# EAGLE library part SN75176BDR (library libredaq-comps)
SNx5176B Differential Bus Transceivers. The SN65176B and SN75176B differential bus transceivers are designed for bidirectional data communication on multipoint bus transmission lines. They are designed for balanced transmission lines and meet ANSI Standards TIA/EIA-422-B (RS422) and TIA/EIA-485-A (RS485).
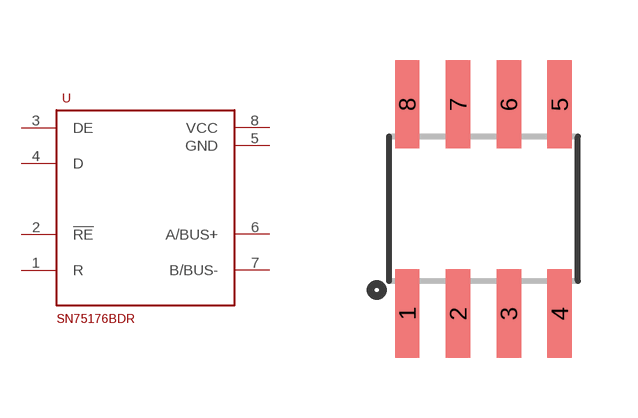
[diagram p2: symbol with the pads of SOIC8; footprint SOIC8]

Designator prefix U

## SN75176BDR  [SOIC8]
1  R
2  !RE
3  DE  in
4  D
5  GND
6  A/BUS+
7  B/BUS-
8  VCC

## Footprint SOIC8 (pad centres in mm)
smd 0.61 x 2.21: 1 -0.635,-2.616; 2 0.635,-2.616; 3 1.905,-2.616; 4 3.175,-2.616; 5 3.175,2.616; 6 1.905,2.616; 7 0.635,2.616; 8 -0.635,2.616